# EAGLE library part WIZ100SR (library wiznet)
Ethernet to Serial mezzanine module
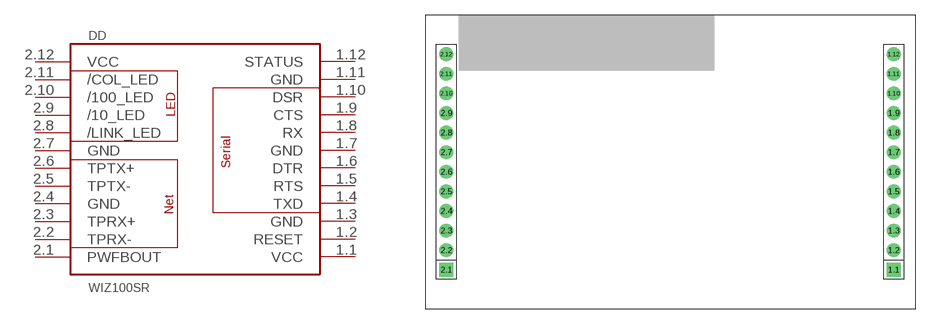
[diagram p0: symbol with the pads of WIZ100SR; footprint WIZ100SR]

Designator prefix DD

## WIZ100SR  [WIZ100SR]
1.1  VCC  pwr
1.2  RESET  in
1.3  GND  pwr
1.4  TXD  out
1.5  RTS  out
1.6  DTR  out
1.7  GND  pwr
1.8  RX  in
1.9  CTS  in
1.10  DSR  in
1.11  GND  pwr
1.12  STATUS  out
2.1  PWFBOUT  out
2.2  TPRX-  in
2.3  TPRX+  in
2.4  GND  pwr
2.5  TPTX-  out
2.6  TPTX+  out
2.7  GND  pwr
2.8  /LINK_LED  out
2.9  /10_LED  out
2.10  /100_LED  out
2.11  /COL_LED  out
2.12  VCC  pwr

## Footprint WIZ100SR (pad centres in mm)
WIZ100SR mesonin board
drill 0.9 square: 1.1 45.6,0; 2.1 0,0
drill 0.9 round: 1.2 45.6,2; 1.3 45.6,4; 1.4 45.6,6; 1.5 45.6,8; 1.6 45.6,10; 1.7 45.6,12; 1.8 45.6,14; 1.9 45.6,16; 1.10 45.6,18; 1.11 45.6,20; 1.12 45.6,22; 2.2 0,2; 2.3 0,4; 2.4 0,6; 2.5 0,8; 2.6 0,10; 2.7 0,12; 2.8 0,14; 2.9 0,16; 2.10 0,18; 2.11 0,20; 2.12 0,22